# Altium footprint library 1047.PcbLib: 1 footprints
Each footprint in its own frame and in the unit in brackets; x right, y up, seen from the top. Pads: shape width x height; smd on the part's side, far side on the other; paste and mask are expansions set on the pad; w line width, h text height; cw(c..) or ccw(c..) is an arc to the next point about the centre after c.
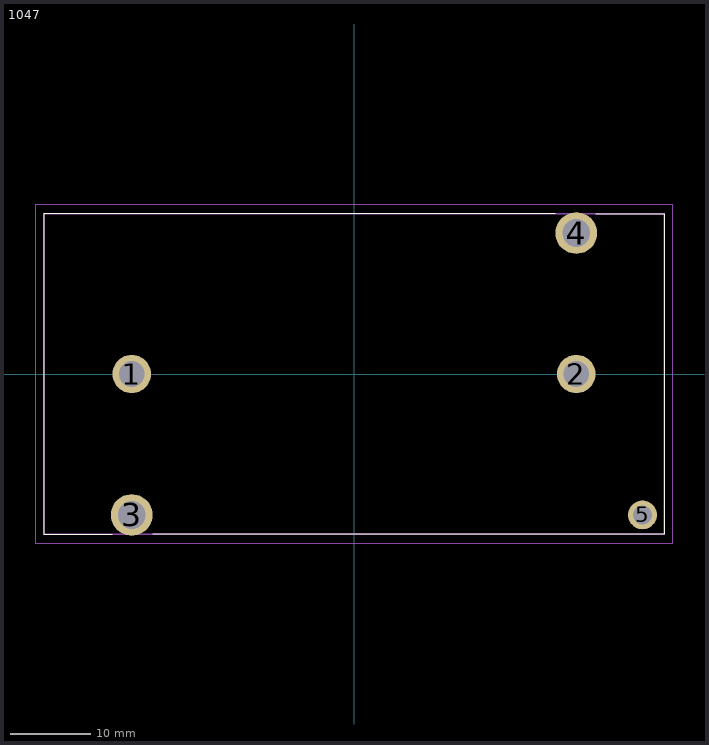
[diagram p0: the footprint, top view; thin cyan lines are the x and y axes]

## 1047 [mm]
pads (5):
  round 4.77 hole 3.18: 1(-27.6,0) 2(27.6,0)
  round 5.175 hole 3.45: 3(-27.6,-17.5) 4(27.6,17.5)
  round 3.57 hole 2.38: 5(35.82,-17.5)
Top Overlay:
  lines w0.1: -30,-19.9 -38.505,-19.9 -38.505,19.9 25,19.9 ; -25,-19.9 38.505,-19.9 38.505,19.9 30,19.9
Mechanical 15:
  lines w0.2: -38.505,-19.9 38.505,-19.9 38.505,19.9 -38.505,19.9 -38.505,-19.9
Mechanical 20:
  lines w0.1: -39.505,-21.087 39.505,-21.087 39.505,21.087 -39.505,21.087 -39.505,-21.087